# Altium schematic symbol library AP3429AKTTR-G1.SchLib: 1 symbol
Pins are listed as number, name and electrical type; pins without a type are passive.

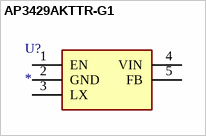
[diagram p0: symbol AP3429AKTTR-G1]

## AP3429AKTTR-G1
designator U?
Value: *
pins: 1 EN, 2 GND, 3 LX, 4 VIN, 5 FB